# Altium integrated library Linear Technology Power Management LDO Linear Regulators.IntLib: 2339 symbols (part 7 of 131)
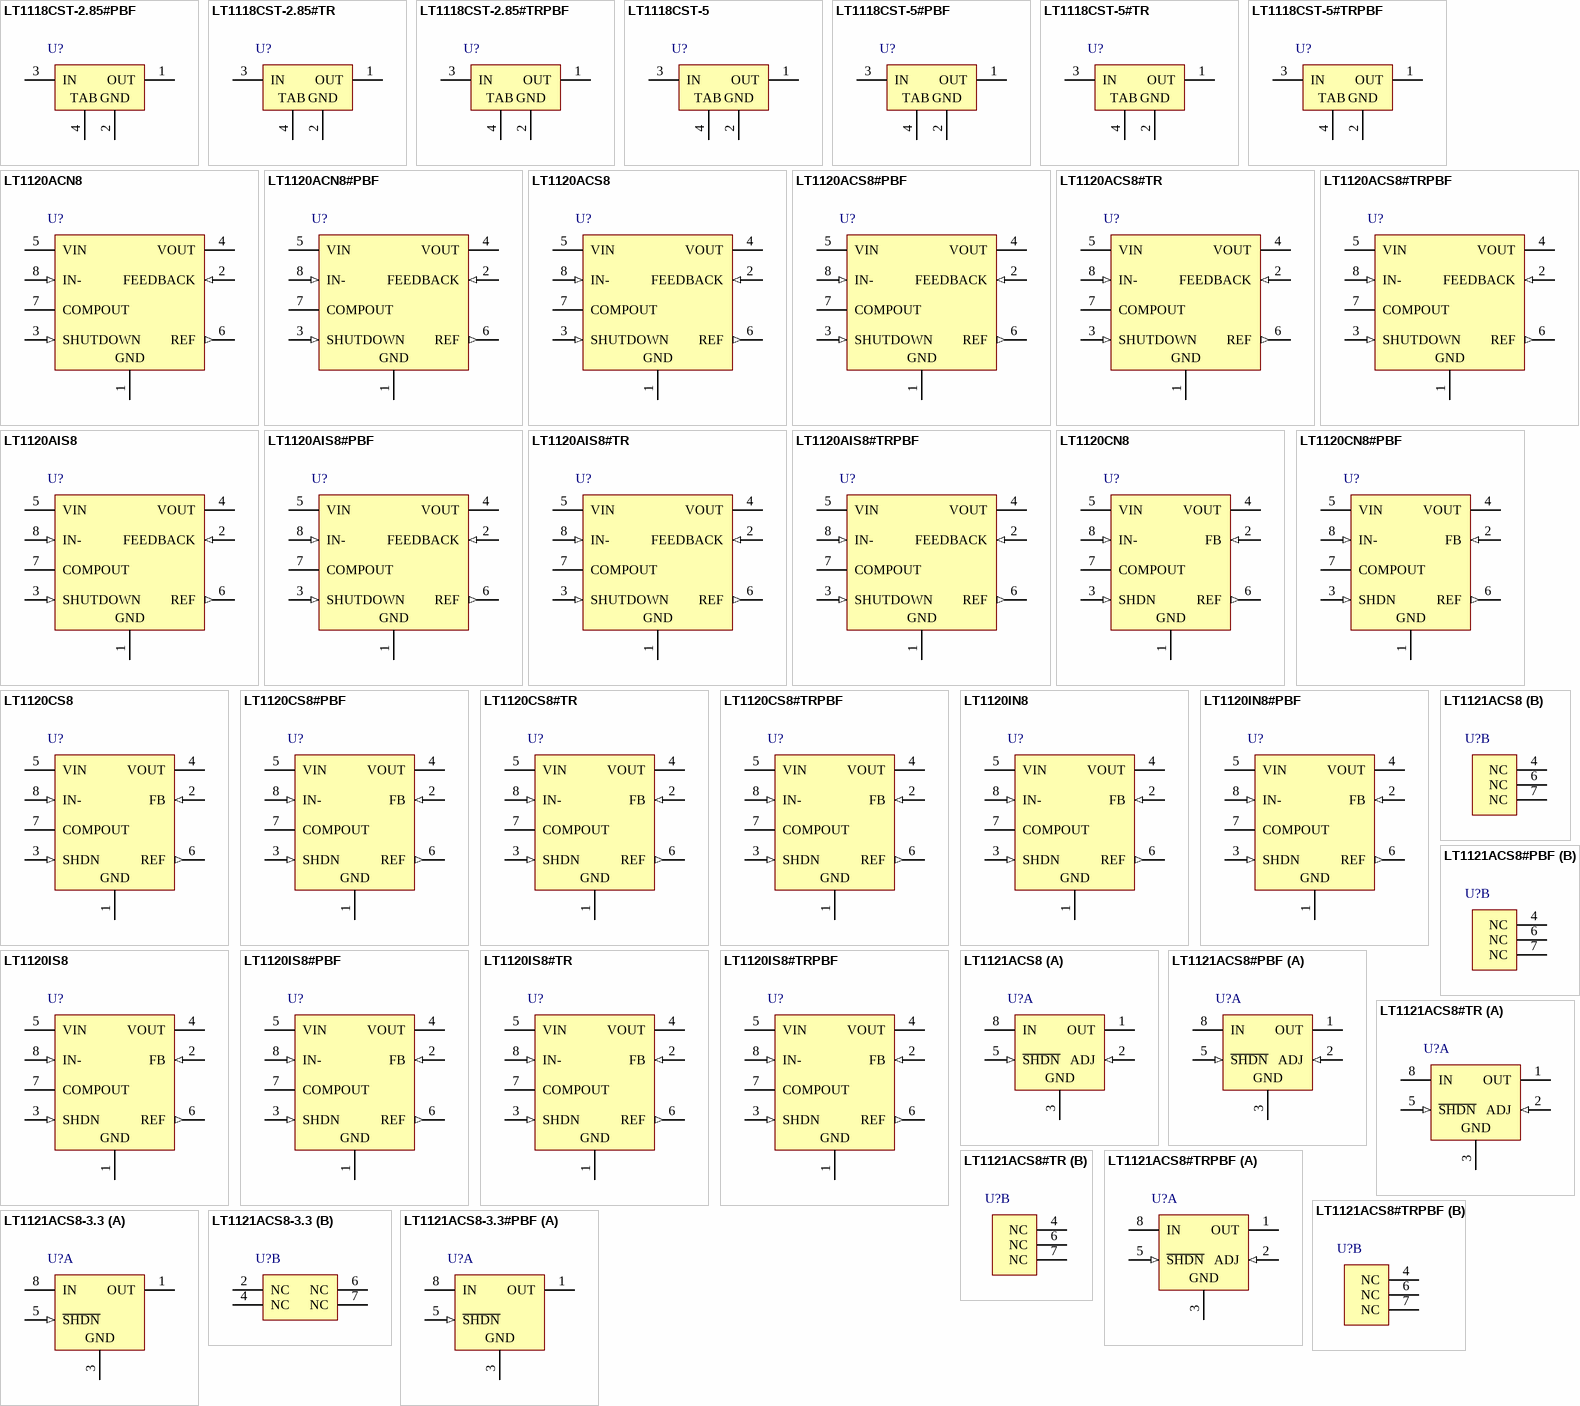
[diagram p75: symbols LT1118CST-2.85#PBF to LT1121ACS8-3.3#PBF]

## LT1120IN8#PBF
designator U?
Comparator and Reference, Logic Shutdown, Reference Sources and Sinks 2 / 4 mA, 4.5 to 36 V Vin, Adjustable Vout, 8-pin DIP (N8-8), -40 to 100 degC, Pb-Free; Manufacturer: Linear Technology; PartNumber: LT1120IN8#PBF; Discrete Pass Element: no; Dropout Voltage(V): 0.4; Iout(mA): 125; Isupply(mA): 0.04; Number of Outputs: 1; Output Voltage: Adj; Shutdown Current(uA): 25; Vin Max(V): 36; Vin Min(V): 4.5; Vout Max(V): 35.15; Vout Min(V): 2.5; DatasheetVersion: Rev. D; PackageVersion: Rev. I, 07/2011; PackageReference: N8-8; PackageDescription: 8-Pin PDIP, Body 10.16 x 6.48 mm, Pitch 2.54 mm; Supplier 1: Digi-Key; Supplier Part Number 1: LT1120IN8#PBF-ND; Supplier 2: Newark; Supplier Part Number 2: 57M1869; RoHS: TRUE; Mounting Technology: Through Hole; ComponentLink1Description: Manufacturer URL; ComponentLink1URL: http://www.linear.com/; ComponentLink2Description: Datasheet; ComponentLink2URL: http://cds.linear.com/docs/en/datasheet/1120fd.pdf; ComponentLink3Description: Package Specification; ComponentLink3URL: http://www.linear.com/docs/en/packaging/05081510_I_N8.pdf
footprint LT-N8-8 (DIP, 8-Leads, Body 10.16x6.48mm, Pitch 2.54mm)
pins: 1 GND (power) "Ground.", 2 FB (in) "Feedback. This is the feedback point of the regulator. When operating, it is nominally at 2.5V. Optimum source resistance is 200k to 500k. The feedback pin should not be driven below ground or more positive than 5V.", 3 SHDN (in) "Shutdown. A logic 1 shuts off the main regulator. Caution: noise or leakage into the shutdown pin can affect output voltage.", 4 VOUT (power) "Regulator Output. Main output, requires a 10uF output capacitor. Can be shorted to VIN or ground without damaging the device.", 5 VIN (power) "Input Supply. Bypass with a 10uF capacitor. Must always be more positive than ground", 6 REF (out) "Reference. 2.5V can source or sink current. May be shorted to ground or up to 5V. Voltages in excess of 5V can damage the device.", 7 COMPOUT (oc) "Comparator Output. Open Collector NPN Output. May be connected to any voltage from ground to 36V more positive than ground (operates above VIN). Short-circuit protected.", 8 IN- (in) "Comparator Input. Inverting comparator input."

## LT1120IS8
designator U?
Comparator and Reference, Logic Shutdown, Reference Sources and Sinks 2 / 4 mA, 4.5 to 36 V Vin, Adjustable Vout, 8-pin SOIC (S8-8), -40 to 100 degC; Manufacturer: Linear Technology; PartNumber: LT1120IS8; Discrete Pass Element: no; Dropout Voltage(V): 0.4; Iout(mA): 125; Isupply(mA): 0.04; Number of Outputs: 1; Output Voltage: Adj; Shutdown Current(uA): 25; Vin Max(V): 36; Vin Min(V): 4.5; Vout Max(V): 35.15; Vout Min(V): 2.5; DatasheetVersion: Rev. D; PackageVersion: Rev. G, 03/2012; PackageReference: S8-8; PackageDescription: 8-Pin Plastic Small Outline (Narrow .150 Inch), Body 4.9 x 3.9 mm, Pitch 1.27 mm; Supplier 1: Digi-Key; Supplier Part Number 1: LT1120IS8-ND; RoHS: FALSE; Mounting Technology: Surface Mount; ComponentLink1Description: Manufacturer URL; ComponentLink1URL: http://www.linear.com/; ComponentLink2Description: Datasheet; ComponentLink2URL: http://cds.linear.com/docs/en/datasheet/1120fd.pdf; ComponentLink3Description: Package Specification; ComponentLink3URL: http://cds.linear.com/docs/en/packaging/05081610_G_SO8.pdf
footprint LT-S8-8_N (SOIC, 8-Leads, Body 4.9x3.9mm, Pitch 1.27mm, IPC Medium Density)
footprint LT-S8-8_L (SOIC, 8-Leads, Body 4.9x3.9mm, Pitch 1.27mm, IPC High Density)
footprint LT-S8-8_M (SOIC, 8-Leads, Body 4.9x3.9mm, Pitch 1.27mm, IPC Low Density)
pins: 1 GND (power) "Ground.", 2 FB (in) "Feedback. This is the feedback point of the regulator. When operating, it is nominally at 2.5V. Optimum source resistance is 200k to 500k. The feedback pin should not be driven below ground or more positive than 5V.", 3 SHDN (in) "Shutdown. A logic 1 shuts off the main regulator. Caution: noise or leakage into the shutdown pin can affect output voltage.", 4 VOUT (power) "Regulator Output. Main output, requires a 10uF output capacitor. Can be shorted to VIN or ground without damaging the device.", 5 VIN (power) "Input Supply. Bypass with a 10uF capacitor. Must always be more positive than ground", 6 REF (out) "Reference. 2.5V can source or sink current. May be shorted to ground or up to 5V. Voltages in excess of 5V can damage the device.", 7 COMPOUT (oc) "Comparator Output. Open Collector NPN Output. May be connected to any voltage from ground to 36V more positive than ground (operates above VIN). Short-circuit protected.", 8 IN- (in) "Comparator Input. Inverting comparator input."

## LT1120IS8#PBF
designator U?
Comparator and Reference, Logic Shutdown, Reference Sources and Sinks 2 / 4 mA, 4.5 to 36 V Vin, Adjustable Vout, 8-pin SOIC (S8-8), -40 to 100 degC, Pb-Free; Manufacturer: Linear Technology; PartNumber: LT1120IS8#PBF; Discrete Pass Element: no; Dropout Voltage(V): 0.4; Iout(mA): 125; Isupply(mA): 0.04; Number of Outputs: 1; Output Voltage: Adj; Shutdown Current(uA): 25; Vin Max(V): 36; Vin Min(V): 4.5; Vout Max(V): 35.15; Vout Min(V): 2.5; DatasheetVersion: Rev. D; PackageVersion: Rev. G, 03/2012; PackageReference: S8-8; PackageDescription: 8-Pin Plastic Small Outline (Narrow .150 Inch), Body 4.9 x 3.9 mm, Pitch 1.27 mm; Supplier 1: Digi-Key; Supplier Part Number 1: LT1120IS8#PBF-ND; Supplier 2: Newark; Supplier Part Number 2: 57M1871; RoHS: TRUE; Mounting Technology: Surface Mount; ComponentLink1Description: Manufacturer URL; ComponentLink1URL: http://www.linear.com/; ComponentLink2Description: Datasheet; ComponentLink2URL: http://cds.linear.com/docs/en/datasheet/1120fd.pdf; ComponentLink3Description: Package Specification; ComponentLink3URL: http://cds.linear.com/docs/en/packaging/05081610_G_SO8.pdf
footprint LT-S8-8_N (SOIC, 8-Leads, Body 4.9x3.9mm, Pitch 1.27mm, IPC Medium Density)
footprint LT-S8-8_L (SOIC, 8-Leads, Body 4.9x3.9mm, Pitch 1.27mm, IPC High Density)
footprint LT-S8-8_M (SOIC, 8-Leads, Body 4.9x3.9mm, Pitch 1.27mm, IPC Low Density)
pins: 1 GND (power) "Ground.", 2 FB (in) "Feedback. This is the feedback point of the regulator. When operating, it is nominally at 2.5V. Optimum source resistance is 200k to 500k. The feedback pin should not be driven below ground or more positive than 5V.", 3 SHDN (in) "Shutdown. A logic 1 shuts off the main regulator. Caution: noise or leakage into the shutdown pin can affect output voltage.", 4 VOUT (power) "Regulator Output. Main output, requires a 10uF output capacitor. Can be shorted to VIN or ground without damaging the device.", 5 VIN (power) "Input Supply. Bypass with a 10uF capacitor. Must always be more positive than ground", 6 REF (out) "Reference. 2.5V can source or sink current. May be shorted to ground or up to 5V. Voltages in excess of 5V can damage the device.", 7 COMPOUT (oc) "Comparator Output. Open Collector NPN Output. May be connected to any voltage from ground to 36V more positive than ground (operates above VIN). Short-circuit protected.", 8 IN- (in) "Comparator Input. Inverting comparator input."

## LT1120IS8#TR
designator U?
Comparator and Reference, Logic Shutdown, Reference Sources and Sinks 2 / 4 mA, 4.5 to 36 V Vin, Adjustable Vout, 8-pin SOIC (S8-8), -40 to 100 degC, Tape and Reel; Manufacturer: Linear Technology; PartNumber: LT1120IS8#TR; Discrete Pass Element: no; Dropout Voltage(V): 0.4; Iout(mA): 125; Isupply(mA): 0.04; Number of Outputs: 1; Output Voltage: Adj; Shutdown Current(uA): 25; Vin Max(V): 36; Vin Min(V): 4.5; Vout Max(V): 35.15; Vout Min(V): 2.5; DatasheetVersion: Rev. D; PackageVersion: Rev. G, 03/2012; PackageReference: S8-8; PackageDescription: 8-Pin Plastic Small Outline (Narrow .150 Inch), Body 4.9 x 3.9 mm, Pitch 1.27 mm; Supplier 1: Digi-Key; Supplier Part Number 1: LT1120IS8#TR-ND; Packing: Tape and Reel; RoHS: FALSE; Mounting Technology: Surface Mount; ComponentLink1Description: Manufacturer URL; ComponentLink1URL: http://www.linear.com/; ComponentLink2Description: Datasheet; ComponentLink2URL: http://cds.linear.com/docs/en/datasheet/1120fd.pdf; ComponentLink3Description: Package Specification; ComponentLink3URL: http://cds.linear.com/docs/en/packaging/05081610_G_SO8.pdf
footprint LT-S8-8_N (SOIC, 8-Leads, Body 4.9x3.9mm, Pitch 1.27mm, IPC Medium Density)
footprint LT-S8-8_L (SOIC, 8-Leads, Body 4.9x3.9mm, Pitch 1.27mm, IPC High Density)
footprint LT-S8-8_M (SOIC, 8-Leads, Body 4.9x3.9mm, Pitch 1.27mm, IPC Low Density)
pins: 1 GND (power) "Ground.", 2 FB (in) "Feedback. This is the feedback point of the regulator. When operating, it is nominally at 2.5V. Optimum source resistance is 200k to 500k. The feedback pin should not be driven below ground or more positive than 5V.", 3 SHDN (in) "Shutdown. A logic 1 shuts off the main regulator. Caution: noise or leakage into the shutdown pin can affect output voltage.", 4 VOUT (power) "Regulator Output. Main output, requires a 10uF output capacitor. Can be shorted to VIN or ground without damaging the device.", 5 VIN (power) "Input Supply. Bypass with a 10uF capacitor. Must always be more positive than ground", 6 REF (out) "Reference. 2.5V can source or sink current. May be shorted to ground or up to 5V. Voltages in excess of 5V can damage the device.", 7 COMPOUT (oc) "Comparator Output. Open Collector NPN Output. May be connected to any voltage from ground to 36V more positive than ground (operates above VIN). Short-circuit protected.", 8 IN- (in) "Comparator Input. Inverting comparator input."

## LT1120IS8#TRPBF
designator U?
Comparator and Reference, Logic Shutdown, Reference Sources and Sinks 2 / 4 mA, 4.5 to 36 V Vin, Adjustable Vout, 8-pin SOIC (S8-8), -40 to 100 degC, Pb-Free, Tape and Reel; Manufacturer: Linear Technology; PartNumber: LT1120IS8#TRPBF; Discrete Pass Element: no; Dropout Voltage(V): 0.4; Iout(mA): 125; Isupply(mA): 0.04; Number of Outputs: 1; Output Voltage: Adj; Shutdown Current(uA): 25; Vin Max(V): 36; Vin Min(V): 4.5; Vout Max(V): 35.15; Vout Min(V): 2.5; DatasheetVersion: Rev. D; PackageVersion: Rev. G, 03/2012; PackageReference: S8-8; PackageDescription: 8-Pin Plastic Small Outline (Narrow .150 Inch), Body 4.9 x 3.9 mm, Pitch 1.27 mm; Supplier 1: Digi-Key; Supplier Part Number 1: LT1120IS8#TRPBF-ND; Packing: Tape and Reel; RoHS: TRUE; Mounting Technology: Surface Mount; ComponentLink1Description: Manufacturer URL; ComponentLink1URL: http://www.linear.com/; ComponentLink2Description: Datasheet; ComponentLink2URL: http://cds.linear.com/docs/en/datasheet/1120fd.pdf; ComponentLink3Description: Package Specification; ComponentLink3URL: http://cds.linear.com/docs/en/packaging/05081610_G_SO8.pdf
footprint LT-S8-8_N (SOIC, 8-Leads, Body 4.9x3.9mm, Pitch 1.27mm, IPC Medium Density)
footprint LT-S8-8_L (SOIC, 8-Leads, Body 4.9x3.9mm, Pitch 1.27mm, IPC High Density)
footprint LT-S8-8_M (SOIC, 8-Leads, Body 4.9x3.9mm, Pitch 1.27mm, IPC Low Density)
pins: 1 GND (power) "Ground.", 2 FB (in) "Feedback. This is the feedback point of the regulator. When operating, it is nominally at 2.5V. Optimum source resistance is 200k to 500k. The feedback pin should not be driven below ground or more positive than 5V.", 3 SHDN (in) "Shutdown. A logic 1 shuts off the main regulator. Caution: noise or leakage into the shutdown pin can affect output voltage.", 4 VOUT (power) "Regulator Output. Main output, requires a 10uF output capacitor. Can be shorted to VIN or ground without damaging the device.", 5 VIN (power) "Input Supply. Bypass with a 10uF capacitor. Must always be more positive than ground", 6 REF (out) "Reference. 2.5V can source or sink current. May be shorted to ground or up to 5V. Voltages in excess of 5V can damage the device.", 7 COMPOUT (oc) "Comparator Output. Open Collector NPN Output. May be connected to any voltage from ground to 36V more positive than ground (operates above VIN). Short-circuit protected.", 8 IN- (in) "Comparator Input. Inverting comparator input."

## LT1121ACS8
designator U?
Micropower Low Dropout Regulator with Shutdown, 4.17 to 36 V Vin, Adjustable Vout, 8-pin SOIC (S8-8), 0 to 125 degC; Manufacturer: Linear Technology; PartNumber: LT1121ACS8; Discrete Pass Element: no; Dropout Voltage(V): 0.42; Iout(mA): 150; Isupply(mA): 0.03; Number of Outputs: 1; Output Voltage: Adj; Shutdown Current(uA): 16; Vin Max(V): 36; Vin Min(V): 4.17; Vout Max(V): 30; Vout Min(V): 3.75; DatasheetVersion: Rev. G; PackageVersion: Rev. G, 03/2012; PackageReference: S8-8; PackageDescription: 8-Pin Plastic Small Outline (Narrow .150 Inch), Body 4.9 x 3.9 mm, Pitch 1.27 mm; Supplier 1: Digi-Key; Supplier Part Number 1: LT1121ACS8-ND; RoHS: FALSE; Mounting Technology: Surface Mount; ComponentLink1Description: Manufacturer URL; ComponentLink1URL: http://www.linear.com/; ComponentLink2Description: Datasheet; ComponentLink2URL: http://cds.linear.com/docs/en/datasheet/1121fg.pdf; ComponentLink3Description: Package Specification; ComponentLink3URL: http://cds.linear.com/docs/en/packaging/05081610_G_SO8.pdf
footprint LT-S8-8_N (SOIC, 8-Leads, Body 4.9x3.9mm, Pitch 1.27mm, IPC Medium Density)
footprint LT-S8-8_L (SOIC, 8-Leads, Body 4.9x3.9mm, Pitch 1.27mm, IPC High Density)
footprint LT-S8-8_M (SOIC, 8-Leads, Body 4.9x3.9mm, Pitch 1.27mm, IPC Low Density)
part A pins: 1 OUT (power) "The output pin supplies power to the load. An output capacitor is required to prevent oscillations. See the Applications Information section for recommended value of output capacitance and information on reverse output (See Datasheet)", 2 ADJ (in) "For the adjustable LT1121, the adjust pin is the input to the error amplifier. This pin is internally clamped to 6V and -0.6V (one VBE). It has a bias current of 150nA which flows into the pin. See Bias Current curve in the (See Datasheet)", 3 GND (power), 5 ~{SHDN} (in) "This pin is used to put the device into shutdown. In shutdown the output of the device is turned off. This pin is active low. The device will be shut down if the shutdown pin is pulled low. The shutdown pin current with the (See Datasheet)", 8 IN (power) "Power is supplied to the device through the input pin. The input pin should be bypassed to ground if the device is more than six inches away from the main input filter capacitor. In general the output impedance of abattery (See Datasheet)"
part B pins: 4 NC, 6 NC, 7 NC

## LT1121ACS8#PBF
designator U?
Micropower Low Dropout Regulator with Shutdown, 4.17 to 36 V Vin, Adjustable Vout, 8-pin SOIC (S8-8), 0 to 125 degC, Pb-Free; Manufacturer: Linear Technology; PartNumber: LT1121ACS8#PBF; Discrete Pass Element: no; Dropout Voltage(V): 0.42; Iout(mA): 150; Isupply(mA): 0.03; Number of Outputs: 1; Output Voltage: Adj; Shutdown Current(uA): 16; Vin Max(V): 36; Vin Min(V): 4.17; Vout Max(V): 30; Vout Min(V): 3.75; DatasheetVersion: Rev. G; PackageVersion: Rev. G, 03/2012; PackageReference: S8-8; PackageDescription: 8-Pin Plastic Small Outline (Narrow .150 Inch), Body 4.9 x 3.9 mm, Pitch 1.27 mm; Supplier 1: Digi-Key; Supplier Part Number 1: LT1121ACS8#PBF-ND; Supplier 2: Farnell; Supplier Part Number 2: 1273567; Supplier 3: Newark; Supplier Part Number 3: 57M1883; RoHS: TRUE; Mounting Technology: Surface Mount; ComponentLink1Description: Manufacturer URL; ComponentLink1URL: http://www.linear.com/; ComponentLink2Description: Datasheet; ComponentLink2URL: http://cds.linear.com/docs/en/datasheet/1121fg.pdf; ComponentLink3Description: Package Specification; ComponentLink3URL: http://cds.linear.com/docs/en/packaging/05081610_G_SO8.pdf
footprint LT-S8-8_N (SOIC, 8-Leads, Body 4.9x3.9mm, Pitch 1.27mm, IPC Medium Density)
footprint LT-S8-8_L (SOIC, 8-Leads, Body 4.9x3.9mm, Pitch 1.27mm, IPC High Density)
footprint LT-S8-8_M (SOIC, 8-Leads, Body 4.9x3.9mm, Pitch 1.27mm, IPC Low Density)
part A pins: 1 OUT (power) "The output pin supplies power to the load. An output capacitor is required to prevent oscillations. See the Applications Information section for recommended value of output capacitance and information on reverse output (See Datasheet)", 2 ADJ (in) "For the adjustable LT1121, the adjust pin is the input to the error amplifier. This pin is internally clamped to 6V and -0.6V (one VBE). It has a bias current of 150nA which flows into the pin. See Bias Current curve in the (See Datasheet)", 3 GND (power), 5 ~{SHDN} (in) "This pin is used to put the device into shutdown. In shutdown the output of the device is turned off. This pin is active low. The device will be shut down if the shutdown pin is pulled low. The shutdown pin current with the (See Datasheet)", 8 IN (power) "Power is supplied to the device through the input pin. The input pin should be bypassed to ground if the device is more than six inches away from the main input filter capacitor. In general the output impedance of abattery (See Datasheet)"
part B pins: 4 NC, 6 NC, 7 NC

## LT1121ACS8#TR
designator U?
Micropower Low Dropout Regulator with Shutdown, 4.17 to 36 V Vin, Adjustable Vout, 8-pin SOIC (S8-8), 0 to 125 degC, Tape and Reel; Manufacturer: Linear Technology; PartNumber: LT1121ACS8#TR; Discrete Pass Element: no; Dropout Voltage(V): 0.42; Iout(mA): 150; Isupply(mA): 0.03; Number of Outputs: 1; Output Voltage: Adj; Shutdown Current(uA): 16; Vin Max(V): 36; Vin Min(V): 4.17; Vout Max(V): 30; Vout Min(V): 3.75; DatasheetVersion: Rev. G; PackageVersion: Rev. G, 03/2012; PackageReference: S8-8; PackageDescription: 8-Pin Plastic Small Outline (Narrow .150 Inch), Body 4.9 x 3.9 mm, Pitch 1.27 mm; Supplier 1: Digi-Key; Supplier Part Number 1: LT1121ACS8#TR-ND; Packing: Tape and Reel; RoHS: FALSE; Mounting Technology: Surface Mount; ComponentLink1Description: Manufacturer URL; ComponentLink1URL: http://www.linear.com/; ComponentLink2Description: Datasheet; ComponentLink2URL: http://cds.linear.com/docs/en/datasheet/1121fg.pdf; ComponentLink3Description: Package Specification; ComponentLink3URL: http://cds.linear.com/docs/en/packaging/05081610_G_SO8.pdf
footprint LT-S8-8_N (SOIC, 8-Leads, Body 4.9x3.9mm, Pitch 1.27mm, IPC Medium Density)
footprint LT-S8-8_L (SOIC, 8-Leads, Body 4.9x3.9mm, Pitch 1.27mm, IPC High Density)
footprint LT-S8-8_M (SOIC, 8-Leads, Body 4.9x3.9mm, Pitch 1.27mm, IPC Low Density)
part A pins: 1 OUT (power) "The output pin supplies power to the load. An output capacitor is required to prevent oscillations. See the Applications Information section for recommended value of output capacitance and information on reverse output (See Datasheet)", 2 ADJ (in) "For the adjustable LT1121, the adjust pin is the input to the error amplifier. This pin is internally clamped to 6V and -0.6V (one VBE). It has a bias current of 150nA which flows into the pin. See Bias Current curve in the (See Datasheet)", 3 GND (power), 5 ~{SHDN} (in) "This pin is used to put the device into shutdown. In shutdown the output of the device is turned off. This pin is active low. The device will be shut down if the shutdown pin is pulled low. The shutdown pin current with the (See Datasheet)", 8 IN (power) "Power is supplied to the device through the input pin. The input pin should be bypassed to ground if the device is more than six inches away from the main input filter capacitor. In general the output impedance of abattery (See Datasheet)"
part B pins: 4 NC, 6 NC, 7 NC

## LT1121ACS8#TRPBF
designator U?
Micropower Low Dropout Regulator with Shutdown, 4.17 to 36 V Vin, Adjustable Vout, 8-pin SOIC (S8-8), 0 to 125 degC, Pb-Free, Tape and Reel; Manufacturer: Linear Technology; PartNumber: LT1121ACS8#TRPBF; Discrete Pass Element: no; Dropout Voltage(V): 0.42; Iout(mA): 150; Isupply(mA): 0.03; Number of Outputs: 1; Output Voltage: Adj; Shutdown Current(uA): 16; Vin Max(V): 36; Vin Min(V): 4.17; Vout Max(V): 30; Vout Min(V): 3.75; DatasheetVersion: Rev. G; PackageVersion: Rev. G, 03/2012; PackageReference: S8-8; PackageDescription: 8-Pin Plastic Small Outline (Narrow .150 Inch), Body 4.9 x 3.9 mm, Pitch 1.27 mm; Supplier 1: Digi-Key; Supplier Part Number 1: LT1121ACS8#TRPBF-ND; Packing: Tape and Reel; RoHS: TRUE; Mounting Technology: Surface Mount; ComponentLink1Description: Manufacturer URL; ComponentLink1URL: http://www.linear.com/; ComponentLink2Description: Datasheet; ComponentLink2URL: http://cds.linear.com/docs/en/datasheet/1121fg.pdf; ComponentLink3Description: Package Specification; ComponentLink3URL: http://cds.linear.com/docs/en/packaging/05081610_G_SO8.pdf
footprint LT-S8-8_N (SOIC, 8-Leads, Body 4.9x3.9mm, Pitch 1.27mm, IPC Medium Density)
footprint LT-S8-8_L (SOIC, 8-Leads, Body 4.9x3.9mm, Pitch 1.27mm, IPC High Density)
footprint LT-S8-8_M (SOIC, 8-Leads, Body 4.9x3.9mm, Pitch 1.27mm, IPC Low Density)
part A pins: 1 OUT (power) "The output pin supplies power to the load. An output capacitor is required to prevent oscillations. See the Applications Information section for recommended value of output capacitance and information on reverse output (See Datasheet)", 2 ADJ (in) "For the adjustable LT1121, the adjust pin is the input to the error amplifier. This pin is internally clamped to 6V and -0.6V (one VBE). It has a bias current of 150nA which flows into the pin. See Bias Current curve in the (See Datasheet)", 3 GND (power), 5 ~{SHDN} (in) "This pin is used to put the device into shutdown. In shutdown the output of the device is turned off. This pin is active low. The device will be shut down if the shutdown pin is pulled low. The shutdown pin current with the (See Datasheet)", 8 IN (power) "Power is supplied to the device through the input pin. The input pin should be bypassed to ground if the device is more than six inches away from the main input filter capacitor. In general the output impedance of abattery (See Datasheet)"
part B pins: 4 NC, 6 NC, 7 NC

## LT1121ACS8-3.3
designator U?
Micropower Low Dropout Regulator with Shutdown, 4.17 to 36 V Vin, 3.3 V Vout, 8-pin SOIC (S8-8), 0 to 125 degC; Manufacturer: Linear Technology; PartNumber: LT1121ACS8-3.3; Discrete Pass Element: no; Dropout Voltage(V): 0.42; Iout(mA): 150; Isupply(mA): 0.03; Number of Outputs: 1; Output Voltage: 3.3 V; Shutdown Current(uA): 16; Vin Max(V): 36; Vin Min(V): 4.17; DatasheetVersion: Rev. G; PackageVersion: Rev. G, 03/2012; PackageReference: S8-8; PackageDescription: 8-Pin Plastic Small Outline (Narrow .150 Inch), Body 4.9 x 3.9 mm, Pitch 1.27 mm; Supplier 1: Digi-Key; Supplier Part Number 1: LT1121ACS8-3.3-ND; RoHS: FALSE; Mounting Technology: Surface Mount; ComponentLink1Description: Manufacturer URL; ComponentLink1URL: http://www.linear.com/; ComponentLink2Description: Datasheet; ComponentLink2URL: http://cds.linear.com/docs/en/datasheet/1121fg.pdf; ComponentLink3Description: Package Specification; ComponentLink3URL: http://cds.linear.com/docs/en/packaging/05081610_G_SO8.pdf
footprint LT-S8-8_N (SOIC, 8-Leads, Body 4.9x3.9mm, Pitch 1.27mm, IPC Medium Density)
footprint LT-S8-8_L (SOIC, 8-Leads, Body 4.9x3.9mm, Pitch 1.27mm, IPC High Density)
footprint LT-S8-8_M (SOIC, 8-Leads, Body 4.9x3.9mm, Pitch 1.27mm, IPC Low Density)
part A pins: 1 OUT (power) "The output pin supplies powerto the load. An output capacitor is required to prevent oscillations. See the Applications Information section for recommended value of output capacitance and information on reverse output (See Datasheet)", 3 GND (power), 5 ~{SHDN} (in) "This pin is used to put the device into shutdown. In shutdown the output ofthe device is turned off. This pin is active low. The device will be shut down if the shutdown pin is pulled low. The shutdown pin current with the (See Datasheet)", 8 IN (power) "Power is supplied to the device through the input pin. The input pin should be bypassed to ground if the device is more than six inches away from the main input filter capacitor. In general the output impedance of abattery (See Datasheet)"
part B pins: 2 NC, 4 NC, 6 NC, 7 NC

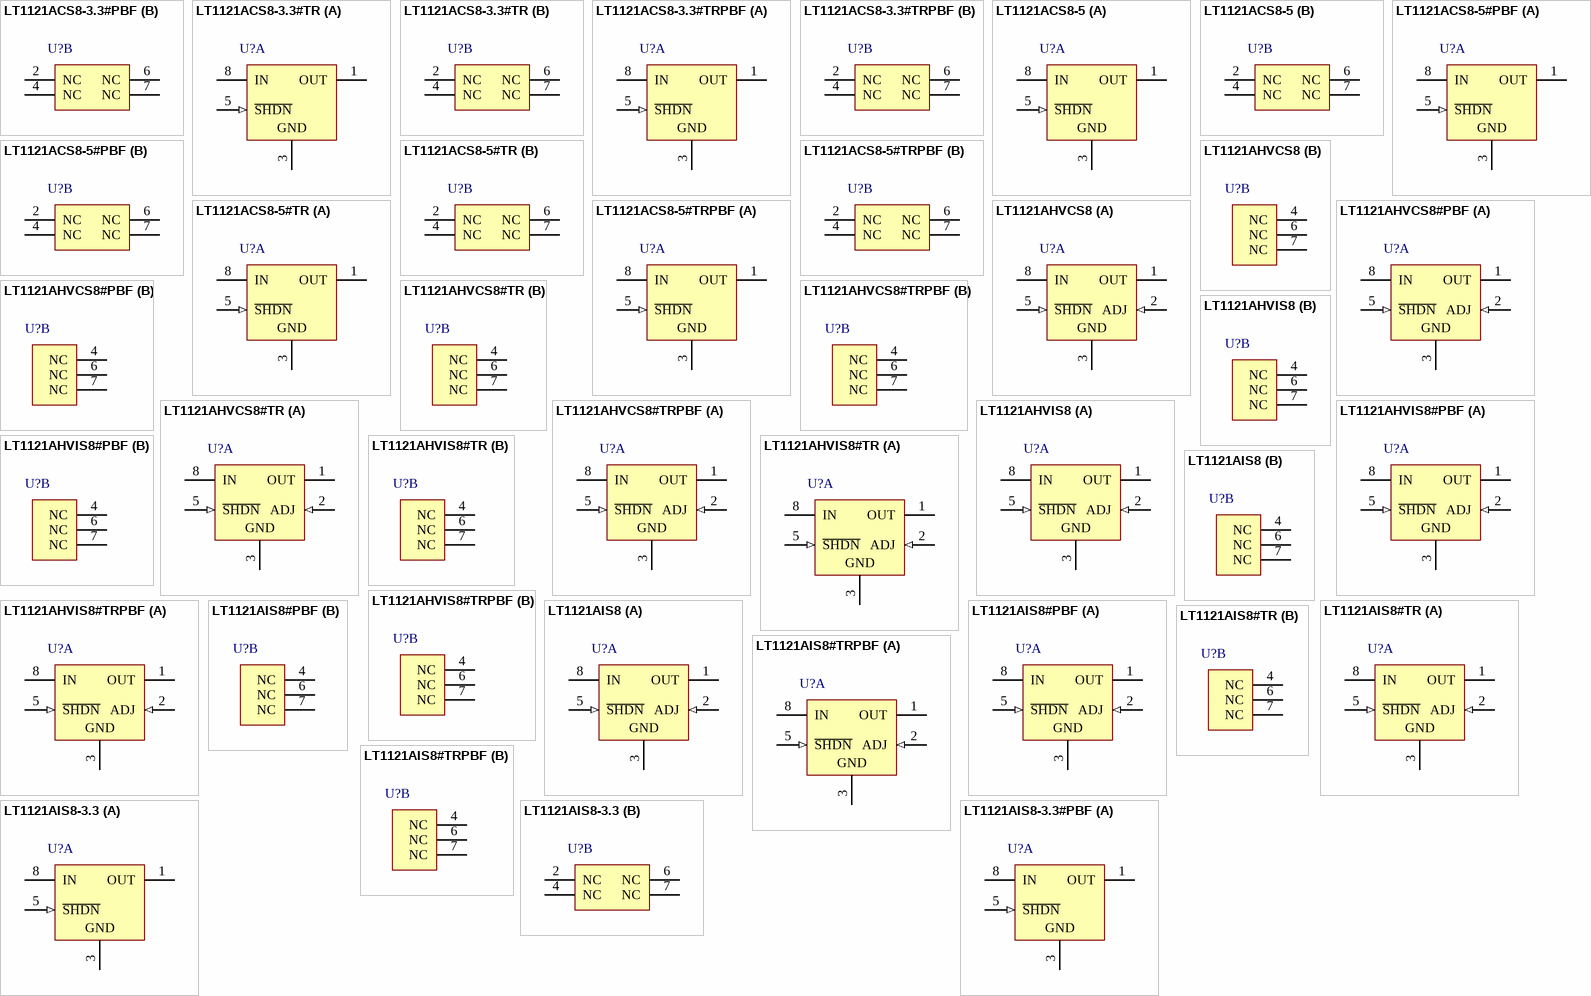
[diagram p5: symbols LT1121ACS8-3.3#PBF to LT1121AIS8-3.3#PBF]

## LT1121ACS8-3.3#PBF
designator U?
Micropower Low Dropout Regulator with Shutdown, 4.17 to 36 V Vin, 3.3 V Vout, 8-pin SOIC (S8-8), 0 to 125 degC, Pb-Free; Manufacturer: Linear Technology; PartNumber: LT1121ACS8-3.3#PBF; Discrete Pass Element: no; Dropout Voltage(V): 0.42; Iout(mA): 150; Isupply(mA): 0.03; Number of Outputs: 1; Output Voltage: 3.3 V; Shutdown Current(uA): 16; Vin Max(V): 36; Vin Min(V): 4.17; DatasheetVersion: Rev. G; PackageVersion: Rev. G, 03/2012; PackageReference: S8-8; PackageDescription: 8-Pin Plastic Small Outline (Narrow .150 Inch), Body 4.9 x 3.9 mm, Pitch 1.27 mm; Supplier 1: Digi-Key; Supplier Part Number 1: LT1121ACS8-3.3#PBF-ND; Supplier 2: Farnell; Supplier Part Number 2: 1273568; RoHS: TRUE; Mounting Technology: Surface Mount; ComponentLink1Description: Manufacturer URL; ComponentLink1URL: http://www.linear.com/; ComponentLink2Description: Datasheet; ComponentLink2URL: http://cds.linear.com/docs/en/datasheet/1121fg.pdf; ComponentLink3Description: Package Specification; ComponentLink3URL: http://cds.linear.com/docs/en/packaging/05081610_G_SO8.pdf
footprint LT-S8-8_N (SOIC, 8-Leads, Body 4.9x3.9mm, Pitch 1.27mm, IPC Medium Density)
footprint LT-S8-8_L (SOIC, 8-Leads, Body 4.9x3.9mm, Pitch 1.27mm, IPC High Density)
footprint LT-S8-8_M (SOIC, 8-Leads, Body 4.9x3.9mm, Pitch 1.27mm, IPC Low Density)
part A pins: 1 OUT (power) "The output pin supplies powerto the load. An output capacitor is required to prevent oscillations. See the Applications Information section for recommended value of output capacitance and information on reverse output (See Datasheet)", 3 GND (power), 5 ~{SHDN} (in) "This pin is used to put the device into shutdown. In shutdown the output ofthe device is turned off. This pin is active low. The device will be shut down if the shutdown pin is pulled low. The shutdown pin current with the (See Datasheet)", 8 IN (power) "Power is supplied to the device through the input pin. The input pin should be bypassed to ground if the device is more than six inches away from the main input filter capacitor. In general the output impedance of abattery (See Datasheet)"
part B pins: 2 NC, 4 NC, 6 NC, 7 NC

## LT1121ACS8-3.3#TR
designator U?
Micropower Low Dropout Regulator with Shutdown, 4.17 to 36 V Vin, 3.3 V Vout, 8-pin SOIC (S8-8), 0 to 125 degC, Tape and Reel; Manufacturer: Linear Technology; PartNumber: LT1121ACS8-3.3#TR; Discrete Pass Element: no; Dropout Voltage(V): 0.42; Iout(mA): 150; Isupply(mA): 0.03; Number of Outputs: 1; Output Voltage: 3.3 V; Shutdown Current(uA): 16; Vin Max(V): 36; Vin Min(V): 4.17; DatasheetVersion: Rev. G; PackageVersion: Rev. G, 03/2012; PackageReference: S8-8; PackageDescription: 8-Pin Plastic Small Outline (Narrow .150 Inch), Body 4.9 x 3.9 mm, Pitch 1.27 mm; Supplier 1: Digi-Key; Supplier Part Number 1: LT1121ACS8-3.3#TR-ND; Packing: Tape and Reel; RoHS: FALSE; Mounting Technology: Surface Mount; ComponentLink1Description: Manufacturer URL; ComponentLink1URL: http://www.linear.com/; ComponentLink2Description: Datasheet; ComponentLink2URL: http://cds.linear.com/docs/en/datasheet/1121fg.pdf; ComponentLink3Description: Package Specification; ComponentLink3URL: http://cds.linear.com/docs/en/packaging/05081610_G_SO8.pdf
footprint LT-S8-8_N (SOIC, 8-Leads, Body 4.9x3.9mm, Pitch 1.27mm, IPC Medium Density)
footprint LT-S8-8_L (SOIC, 8-Leads, Body 4.9x3.9mm, Pitch 1.27mm, IPC High Density)
footprint LT-S8-8_M (SOIC, 8-Leads, Body 4.9x3.9mm, Pitch 1.27mm, IPC Low Density)
part A pins: 1 OUT (power) "The output pin supplies powerto the load. An output capacitor is required to prevent oscillations. See the Applications Information section for recommended value of output capacitance and information on reverse output (See Datasheet)", 3 GND (power), 5 ~{SHDN} (in) "This pin is used to put the device into shutdown. In shutdown the output ofthe device is turned off. This pin is active low. The device will be shut down if the shutdown pin is pulled low. The shutdown pin current with the (See Datasheet)", 8 IN (power) "Power is supplied to the device through the input pin. The input pin should be bypassed to ground if the device is more than six inches away from the main input filter capacitor. In general the output impedance of abattery (See Datasheet)"
part B pins: 2 NC, 4 NC, 6 NC, 7 NC

## LT1121ACS8-3.3#TRPBF
designator U?
Micropower Low Dropout Regulator with Shutdown, 4.17 to 36 V Vin, 3.3 V Vout, 8-pin SOIC (S8-8), 0 to 125 degC, Pb-Free, Tape and Reel; Manufacturer: Linear Technology; PartNumber: LT1121ACS8-3.3#TRPBF; Discrete Pass Element: no; Dropout Voltage(V): 0.42; Iout(mA): 150; Isupply(mA): 0.03; Number of Outputs: 1; Output Voltage: 3.3 V; Shutdown Current(uA): 16; Vin Max(V): 36; Vin Min(V): 4.17; DatasheetVersion: Rev. G; PackageVersion: Rev. G, 03/2012; PackageReference: S8-8; PackageDescription: 8-Pin Plastic Small Outline (Narrow .150 Inch), Body 4.9 x 3.9 mm, Pitch 1.27 mm; Supplier 1: Digi-Key; Supplier Part Number 1: LT1121ACS8-3.3#TRPBF-ND; Packing: Tape and Reel; RoHS: TRUE; Mounting Technology: Surface Mount; ComponentLink1Description: Manufacturer URL; ComponentLink1URL: http://www.linear.com/; ComponentLink2Description: Datasheet; ComponentLink2URL: http://cds.linear.com/docs/en/datasheet/1121fg.pdf; ComponentLink3Description: Package Specification; ComponentLink3URL: http://cds.linear.com/docs/en/packaging/05081610_G_SO8.pdf
footprint LT-S8-8_N (SOIC, 8-Leads, Body 4.9x3.9mm, Pitch 1.27mm, IPC Medium Density)
footprint LT-S8-8_L (SOIC, 8-Leads, Body 4.9x3.9mm, Pitch 1.27mm, IPC High Density)
footprint LT-S8-8_M (SOIC, 8-Leads, Body 4.9x3.9mm, Pitch 1.27mm, IPC Low Density)
part A pins: 1 OUT (power) "The output pin supplies powerto the load. An output capacitor is required to prevent oscillations. See the Applications Information section for recommended value of output capacitance and information on reverse output (See Datasheet)", 3 GND (power), 5 ~{SHDN} (in) "This pin is used to put the device into shutdown. In shutdown the output ofthe device is turned off. This pin is active low. The device will be shut down if the shutdown pin is pulled low. The shutdown pin current with the (See Datasheet)", 8 IN (power) "Power is supplied to the device through the input pin. The input pin should be bypassed to ground if the device is more than six inches away from the main input filter capacitor. In general the output impedance of abattery (See Datasheet)"
part B pins: 2 NC, 4 NC, 6 NC, 7 NC

## LT1121ACS8-5
designator U?
Micropower Low Dropout Regulator with Shutdown, 4.17 to 36 V Vin, 5 V Vout, 8-pin SOIC (S8-8), 0 to 125 degC; Manufacturer: Linear Technology; PartNumber: LT1121ACS8-5; Discrete Pass Element: no; Dropout Voltage(V): 0.42; Iout(mA): 150; Isupply(mA): 0.03; Number of Outputs: 1; Output Voltage: 5 V; Shutdown Current(uA): 16; Vin Max(V): 36; Vin Min(V): 4.17; DatasheetVersion: Rev. G; PackageVersion: Rev. G, 03/2012; PackageReference: S8-8; PackageDescription: 8-Pin Plastic Small Outline (Narrow .150 Inch), Body 4.9 x 3.9 mm, Pitch 1.27 mm; Supplier 1: Digi-Key; Supplier Part Number 1: LT1121ACS8-5-ND; RoHS: FALSE; Mounting Technology: Surface Mount; ComponentLink1Description: Manufacturer URL; ComponentLink1URL: http://www.linear.com/; ComponentLink2Description: Datasheet; ComponentLink2URL: http://cds.linear.com/docs/en/datasheet/1121fg.pdf; ComponentLink3Description: Package Specification; ComponentLink3URL: http://cds.linear.com/docs/en/packaging/05081610_G_SO8.pdf
footprint LT-S8-8_N (SOIC, 8-Leads, Body 4.9x3.9mm, Pitch 1.27mm, IPC Medium Density)
footprint LT-S8-8_L (SOIC, 8-Leads, Body 4.9x3.9mm, Pitch 1.27mm, IPC High Density)
footprint LT-S8-8_M (SOIC, 8-Leads, Body 4.9x3.9mm, Pitch 1.27mm, IPC Low Density)
part A pins: 1 OUT (power) "The output pin supplies powerto the load. An output capacitor is required to prevent oscillations. See the Applications Information section for recommended value of output capacitance and information on reverse output (See Datasheet)", 3 GND (power), 5 ~{SHDN} (in) "This pin is used to put the device into shutdown. In shutdown the output ofthe device is turned off. This pin is active low. The device will be shut down if the shutdown pin is pulled low. The shutdown pin current with the (See Datasheet)", 8 IN (power) "Power is supplied to the device through the input pin. The input pin should be bypassed to ground if the device is more than six inches away from the main input filter capacitor. In general the output impedance of abattery (See Datasheet)"
part B pins: 2 NC, 4 NC, 6 NC, 7 NC

## LT1121ACS8-5#PBF
designator U?
Micropower Low Dropout Regulator with Shutdown, 4.17 to 36 V Vin, 5 V Vout, 8-pin SOIC (S8-8), 0 to 125 degC, Pb-Free; Manufacturer: Linear Technology; PartNumber: LT1121ACS8-5#PBF; Discrete Pass Element: no; Dropout Voltage(V): 0.42; Iout(mA): 150; Isupply(mA): 0.03; Number of Outputs: 1; Output Voltage: 5 V; Shutdown Current(uA): 16; Vin Max(V): 36; Vin Min(V): 4.17; DatasheetVersion: Rev. G; PackageVersion: Rev. G, 03/2012; PackageReference: S8-8; PackageDescription: 8-Pin Plastic Small Outline (Narrow .150 Inch), Body 4.9 x 3.9 mm, Pitch 1.27 mm; Supplier 1: Digi-Key; Supplier Part Number 1: LT1121ACS8-5#PBF-ND; Supplier 2: Farnell; Supplier Part Number 2: 1273569; Supplier 3: Newark; Supplier Part Number 3: 57M1880; RoHS: TRUE; Mounting Technology: Surface Mount; ComponentLink1Description: Manufacturer URL; ComponentLink1URL: http://www.linear.com/; ComponentLink2Description: Datasheet; ComponentLink2URL: http://cds.linear.com/docs/en/datasheet/1121fg.pdf; ComponentLink3Description: Package Specification; ComponentLink3URL: http://cds.linear.com/docs/en/packaging/05081610_G_SO8.pdf
footprint LT-S8-8_N (SOIC, 8-Leads, Body 4.9x3.9mm, Pitch 1.27mm, IPC Medium Density)
footprint LT-S8-8_L (SOIC, 8-Leads, Body 4.9x3.9mm, Pitch 1.27mm, IPC High Density)
footprint LT-S8-8_M (SOIC, 8-Leads, Body 4.9x3.9mm, Pitch 1.27mm, IPC Low Density)
part A pins: 1 OUT (power) "The output pin supplies powerto the load. An output capacitor is required to prevent oscillations. See the Applications Information section for recommended value of output capacitance and information on reverse output (See Datasheet)", 3 GND (power), 5 ~{SHDN} (in) "This pin is used to put the device into shutdown. In shutdown the output ofthe device is turned off. This pin is active low. The device will be shut down if the shutdown pin is pulled low. The shutdown pin current with the (See Datasheet)", 8 IN (power) "Power is supplied to the device through the input pin. The input pin should be bypassed to ground if the device is more than six inches away from the main input filter capacitor. In general the output impedance of abattery (See Datasheet)"
part B pins: 2 NC, 4 NC, 6 NC, 7 NC

## LT1121ACS8-5#TR
designator U?
Micropower Low Dropout Regulator with Shutdown, 4.17 to 36 V Vin, 5 V Vout, 8-pin SOIC (S8-8), 0 to 125 degC, Tape and Reel; Manufacturer: Linear Technology; PartNumber: LT1121ACS8-5#TR; Discrete Pass Element: no; Dropout Voltage(V): 0.42; Iout(mA): 150; Isupply(mA): 0.03; Number of Outputs: 1; Output Voltage: 5 V; Shutdown Current(uA): 16; Vin Max(V): 36; Vin Min(V): 4.17; DatasheetVersion: Rev. G; PackageVersion: Rev. G, 03/2012; PackageReference: S8-8; PackageDescription: 8-Pin Plastic Small Outline (Narrow .150 Inch), Body 4.9 x 3.9 mm, Pitch 1.27 mm; Supplier 1: Digi-Key; Supplier Part Number 1: LT1121ACS8-5#TR-ND; Packing: Tape and Reel; RoHS: FALSE; Mounting Technology: Surface Mount; ComponentLink1Description: Manufacturer URL; ComponentLink1URL: http://www.linear.com/; ComponentLink2Description: Datasheet; ComponentLink2URL: http://cds.linear.com/docs/en/datasheet/1121fg.pdf; ComponentLink3Description: Package Specification; ComponentLink3URL: http://cds.linear.com/docs/en/packaging/05081610_G_SO8.pdf
footprint LT-S8-8_N (SOIC, 8-Leads, Body 4.9x3.9mm, Pitch 1.27mm, IPC Medium Density)
footprint LT-S8-8_L (SOIC, 8-Leads, Body 4.9x3.9mm, Pitch 1.27mm, IPC High Density)
footprint LT-S8-8_M (SOIC, 8-Leads, Body 4.9x3.9mm, Pitch 1.27mm, IPC Low Density)
part A pins: 1 OUT (power) "The output pin supplies powerto the load. An output capacitor is required to prevent oscillations. See the Applications Information section for recommended value of output capacitance and information on reverse output (See Datasheet)", 3 GND (power), 5 ~{SHDN} (in) "This pin is used to put the device into shutdown. In shutdown the output ofthe device is turned off. This pin is active low. The device will be shut down if the shutdown pin is pulled low. The shutdown pin current with the (See Datasheet)", 8 IN (power) "Power is supplied to the device through the input pin. The input pin should be bypassed to ground if the device is more than six inches away from the main input filter capacitor. In general the output impedance of abattery (See Datasheet)"
part B pins: 2 NC, 4 NC, 6 NC, 7 NC

## LT1121ACS8-5#TRPBF
designator U?
Micropower Low Dropout Regulator with Shutdown, 4.17 to 36 V Vin, 5 V Vout, 8-pin SOIC (S8-8), 0 to 125 degC, Pb-Free, Tape and Reel; Manufacturer: Linear Technology; PartNumber: LT1121ACS8-5#TRPBF; Discrete Pass Element: no; Dropout Voltage(V): 0.42; Iout(mA): 150; Isupply(mA): 0.03; Number of Outputs: 1; Output Voltage: 5 V; Shutdown Current(uA): 16; Vin Max(V): 36; Vin Min(V): 4.17; DatasheetVersion: Rev. G; PackageVersion: Rev. G, 03/2012; PackageReference: S8-8; PackageDescription: 8-Pin Plastic Small Outline (Narrow .150 Inch), Body 4.9 x 3.9 mm, Pitch 1.27 mm; Supplier 1: Digi-Key; Supplier Part Number 1: LT1121ACS8-5#TRPBF-ND; Packing: Tape and Reel; RoHS: TRUE; Mounting Technology: Surface Mount; ComponentLink1Description: Manufacturer URL; ComponentLink1URL: http://www.linear.com/; ComponentLink2Description: Datasheet; ComponentLink2URL: http://cds.linear.com/docs/en/datasheet/1121fg.pdf; ComponentLink3Description: Package Specification; ComponentLink3URL: http://cds.linear.com/docs/en/packaging/05081610_G_SO8.pdf
footprint LT-S8-8_N (SOIC, 8-Leads, Body 4.9x3.9mm, Pitch 1.27mm, IPC Medium Density)
footprint LT-S8-8_L (SOIC, 8-Leads, Body 4.9x3.9mm, Pitch 1.27mm, IPC High Density)
footprint LT-S8-8_M (SOIC, 8-Leads, Body 4.9x3.9mm, Pitch 1.27mm, IPC Low Density)
part A pins: 1 OUT (power) "The output pin supplies powerto the load. An output capacitor is required to prevent oscillations. See the Applications Information section for recommended value of output capacitance and information on reverse output (See Datasheet)", 3 GND (power), 5 ~{SHDN} (in) "This pin is used to put the device into shutdown. In shutdown the output ofthe device is turned off. This pin is active low. The device will be shut down if the shutdown pin is pulled low. The shutdown pin current with the (See Datasheet)", 8 IN (power) "Power is supplied to the device through the input pin. The input pin should be bypassed to ground if the device is more than six inches away from the main input filter capacitor. In general the output impedance of abattery (See Datasheet)"
part B pins: 2 NC, 4 NC, 6 NC, 7 NC

## LT1121AHVCS8
designator U?
Micropower Low Dropout Regulator with Shutdown, 4.17 to 36 V Vin, Adjustable Vout, 8-pin SOIC (S8-8), -40 to 125 degC; Manufacturer: Linear Technology; PartNumber: LT1121AHVCS8; Discrete Pass Element: no; Dropout Voltage(V): 0.42; Iout(mA): 150; Isupply(mA): 0.03; Number of Outputs: 1; Output Voltage: Adj; Shutdown Current(uA): 16; Vin Max(V): 36; Vin Min(V): 4.17; Vout Max(V): 30; Vout Min(V): 3.75; DatasheetVersion: Rev. G; PackageVersion: Rev. G, 03/2012; PackageReference: S8-8; PackageDescription: 8-Pin Plastic Small Outline (Narrow .150 Inch), Body 4.9 x 3.9 mm, Pitch 1.27 mm; Supplier 1: Digi-Key; Supplier Part Number 1: LT1121AHVCS8-ND; Supplier 2: Newark; Supplier Part Number 2: 57M1886; RoHS: FALSE; Mounting Technology: Surface Mount; ComponentLink1Description: Manufacturer URL; ComponentLink1URL: http://www.linear.com/; ComponentLink2Description: Datasheet; ComponentLink2URL: http://cds.linear.com/docs/en/datasheet/1121fg.pdf; ComponentLink3Description: Package Specification; ComponentLink3URL: http://cds.linear.com/docs/en/packaging/05081610_G_SO8.pdf
footprint LT-S8-8_N (SOIC, 8-Leads, Body 4.9x3.9mm, Pitch 1.27mm, IPC Medium Density)
footprint LT-S8-8_L (SOIC, 8-Leads, Body 4.9x3.9mm, Pitch 1.27mm, IPC High Density)
footprint LT-S8-8_M (SOIC, 8-Leads, Body 4.9x3.9mm, Pitch 1.27mm, IPC Low Density)
part A pins: 1 OUT (power) "The output pin supplies power to the load. An output capacitor is required to prevent oscillations. See the Applications Information section for recommended value of output capacitance and information on reverse output (See Datasheet)", 2 ADJ (in) "For the adjustable LT1121, the adjust pin is the input to the error amplifier. This pin is internally clamped to 6V and -0.6V (one VBE). It has a bias current of 150nA which flows into the pin. See Bias Current curve in the (See Datasheet)", 3 GND (power), 5 ~{SHDN} (in) "This pin is used to put the device into shutdown. In shutdown the output of the device is turned off. This pin is active low. The device will be shut down if the shutdown pin is pulled low. The shutdown pin current with the (See Datasheet)", 8 IN (power) "Power is supplied to the device through the input pin. The input pin should be bypassed to ground if the device is more than six inches away from the main input filter capacitor. In general the output impedance of abattery (See Datasheet)"
part B pins: 4 NC, 6 NC, 7 NC

## LT1121AHVCS8#PBF
designator U?
Micropower Low Dropout Regulator with Shutdown, 4.17 to 36 V Vin, Adjustable Vout, 8-pin SOIC (S8-8), -40 to 125 degC, Pb-Free; Manufacturer: Linear Technology; PartNumber: LT1121AHVCS8#PBF; Discrete Pass Element: no; Dropout Voltage(V): 0.42; Iout(mA): 150; Isupply(mA): 0.03; Number of Outputs: 1; Output Voltage: Adj; Shutdown Current(uA): 16; Vin Max(V): 36; Vin Min(V): 4.17; Vout Max(V): 30; Vout Min(V): 3.75; DatasheetVersion: Rev. G; PackageVersion: Rev. G, 03/2012; PackageReference: S8-8; PackageDescription: 8-Pin Plastic Small Outline (Narrow .150 Inch), Body 4.9 x 3.9 mm, Pitch 1.27 mm; Supplier 1: Digi-Key; Supplier Part Number 1: LT1121AHVCS8#PBF-ND; Supplier 2: Newark; Supplier Part Number 2: 57M1887; RoHS: TRUE; Mounting Technology: Surface Mount; ComponentLink1Description: Manufacturer URL; ComponentLink1URL: http://www.linear.com/; ComponentLink2Description: Datasheet; ComponentLink2URL: http://cds.linear.com/docs/en/datasheet/1121fg.pdf; ComponentLink3Description: Package Specification; ComponentLink3URL: http://cds.linear.com/docs/en/packaging/05081610_G_SO8.pdf
footprint LT-S8-8_N (SOIC, 8-Leads, Body 4.9x3.9mm, Pitch 1.27mm, IPC Medium Density)
footprint LT-S8-8_L (SOIC, 8-Leads, Body 4.9x3.9mm, Pitch 1.27mm, IPC High Density)
footprint LT-S8-8_M (SOIC, 8-Leads, Body 4.9x3.9mm, Pitch 1.27mm, IPC Low Density)
part A pins: 1 OUT (power) "The output pin supplies power to the load. An output capacitor is required to prevent oscillations. See the Applications Information section for recommended value of output capacitance and information on reverse output (See Datasheet)", 2 ADJ (in) "For the adjustable LT1121, the adjust pin is the input to the error amplifier. This pin is internally clamped to 6V and -0.6V (one VBE). It has a bias current of 150nA which flows into the pin. See Bias Current curve in the (See Datasheet)", 3 GND (power), 5 ~{SHDN} (in) "This pin is used to put the device into shutdown. In shutdown the output of the device is turned off. This pin is active low. The device will be shut down if the shutdown pin is pulled low. The shutdown pin current with the (See Datasheet)", 8 IN (power) "Power is supplied to the device through the input pin. The input pin should be bypassed to ground if the device is more than six inches away from the main input filter capacitor. In general the output impedance of abattery (See Datasheet)"
part B pins: 4 NC, 6 NC, 7 NC

## LT1121AHVCS8#TR
designator U?
Micropower Low Dropout Regulator with Shutdown, 4.17 to 36 V Vin, Adjustable Vout, 8-pin SOIC (S8-8), -40 to 125 degC, Tape and Reel; Manufacturer: Linear Technology; PartNumber: LT1121AHVCS8#TR; Discrete Pass Element: no; Dropout Voltage(V): 0.42; Iout(mA): 150; Isupply(mA): 0.03; Number of Outputs: 1; Output Voltage: Adj; Shutdown Current(uA): 16; Vin Max(V): 36; Vin Min(V): 4.17; Vout Max(V): 30; Vout Min(V): 3.75; DatasheetVersion: Rev. G; PackageVersion: Rev. G, 03/2012; PackageReference: S8-8; PackageDescription: 8-Pin Plastic Small Outline (Narrow .150 Inch), Body 4.9 x 3.9 mm, Pitch 1.27 mm; Supplier 1: Digi-Key; Supplier Part Number 1: LT1121AHVCS8TR-ND; Packing: Tape and Reel; RoHS: FALSE; Mounting Technology: Surface Mount; ComponentLink1Description: Manufacturer URL; ComponentLink1URL: http://www.linear.com/; ComponentLink2Description: Datasheet; ComponentLink2URL: http://cds.linear.com/docs/en/datasheet/1121fg.pdf; ComponentLink3Description: Package Specification; ComponentLink3URL: http://cds.linear.com/docs/en/packaging/05081610_G_SO8.pdf
footprint LT-S8-8_N (SOIC, 8-Leads, Body 4.9x3.9mm, Pitch 1.27mm, IPC Medium Density)
footprint LT-S8-8_L (SOIC, 8-Leads, Body 4.9x3.9mm, Pitch 1.27mm, IPC High Density)
footprint LT-S8-8_M (SOIC, 8-Leads, Body 4.9x3.9mm, Pitch 1.27mm, IPC Low Density)
part A pins: 1 OUT (power) "The output pin supplies power to the load. An output capacitor is required to prevent oscillations. See the Applications Information section for recommended value of output capacitance and information on reverse output (See Datasheet)", 2 ADJ (in) "For the adjustable LT1121, the adjust pin is the input to the error amplifier. This pin is internally clamped to 6V and -0.6V (one VBE). It has a bias current of 150nA which flows into the pin. See Bias Current curve in the (See Datasheet)", 3 GND (power), 5 ~{SHDN} (in) "This pin is used to put the device into shutdown. In shutdown the output of the device is turned off. This pin is active low. The device will be shut down if the shutdown pin is pulled low. The shutdown pin current with the (See Datasheet)", 8 IN (power) "Power is supplied to the device through the input pin. The input pin should be bypassed to ground if the device is more than six inches away from the main input filter capacitor. In general the output impedance of abattery (See Datasheet)"
part B pins: 4 NC, 6 NC, 7 NC

## LT1121AHVCS8#TRPBF
designator U?
Micropower Low Dropout Regulator with Shutdown, 4.17 to 36 V Vin, Adjustable Vout, 8-pin SOIC (S8-8), -40 to 125 degC, Pb-Free, Tape and Reel; Manufacturer: Linear Technology; PartNumber: LT1121AHVCS8#TRPBF; Discrete Pass Element: no; Dropout Voltage(V): 0.42; Iout(mA): 150; Isupply(mA): 0.03; Number of Outputs: 1; Output Voltage: Adj; Shutdown Current(uA): 16; Vin Max(V): 36; Vin Min(V): 4.17; Vout Max(V): 30; Vout Min(V): 3.75; DatasheetVersion: Rev. G; PackageVersion: Rev. G, 03/2012; PackageReference: S8-8; PackageDescription: 8-Pin Plastic Small Outline (Narrow .150 Inch), Body 4.9 x 3.9 mm, Pitch 1.27 mm; Supplier 1: Digi-Key; Supplier Part Number 1: LT1121AHVCS8#TRPBF-ND; Packing: Tape and Reel; RoHS: TRUE; Mounting Technology: Surface Mount; ComponentLink1Description: Manufacturer URL; ComponentLink1URL: http://www.linear.com/; ComponentLink2Description: Datasheet; ComponentLink2URL: http://cds.linear.com/docs/en/datasheet/1121fg.pdf; ComponentLink3Description: Package Specification; ComponentLink3URL: http://cds.linear.com/docs/en/packaging/05081610_G_SO8.pdf
footprint LT-S8-8_N (SOIC, 8-Leads, Body 4.9x3.9mm, Pitch 1.27mm, IPC Medium Density)
footprint LT-S8-8_L (SOIC, 8-Leads, Body 4.9x3.9mm, Pitch 1.27mm, IPC High Density)
footprint LT-S8-8_M (SOIC, 8-Leads, Body 4.9x3.9mm, Pitch 1.27mm, IPC Low Density)
part A pins: 1 OUT (power) "The output pin supplies power to the load. An output capacitor is required to prevent oscillations. See the Applications Information section for recommended value of output capacitance and information on reverse output (See Datasheet)", 2 ADJ (in) "For the adjustable LT1121, the adjust pin is the input to the error amplifier. This pin is internally clamped to 6V and -0.6V (one VBE). It has a bias current of 150nA which flows into the pin. See Bias Current curve in the (See Datasheet)", 3 GND (power), 5 ~{SHDN} (in) "This pin is used to put the device into shutdown. In shutdown the output of the device is turned off. This pin is active low. The device will be shut down if the shutdown pin is pulled low. The shutdown pin current with the (See Datasheet)", 8 IN (power) "Power is supplied to the device through the input pin. The input pin should be bypassed to ground if the device is more than six inches away from the main input filter capacitor. In general the output impedance of abattery (See Datasheet)"
part B pins: 4 NC, 6 NC, 7 NC